# EAGLE library part ADNS-2080 (library avago_extended)
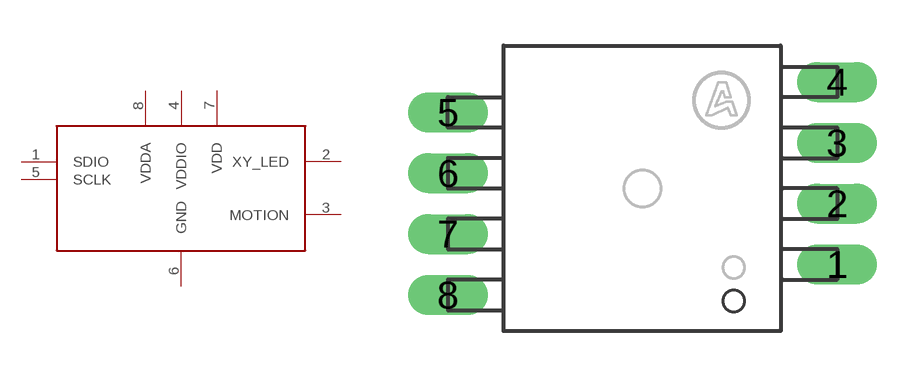
[diagram p1: symbol with the pads of DIP8-OPTICAL; footprint DIP8-OPTICAL]

Designator prefix -

## ADNS-2080  [DIP8-OPTICAL]
1  SDIO  hiz
2  XY_LED  pas
3  MOTION  out
4  VDDIO  pas
5  SCLK  in
6  GND  pas
7  VDD  pas
8  VDDA  pas

## Footprint DIP8-OPTICAL (pad centres in mm)
drill 0.8 long: 1 6.4,-2.5; 2 6.4,-0.5; 3 6.4,1.5; 4 6.4,3.5; 5 -6.4,2.5; 6 -6.4,0.5; 7 -6.4,-1.5; 8 -6.4,-3.5